# Altium schematic symbol library CMF5540K000BHEB.SchLib: 2 symbols
Pins are listed as number, name and electrical type; pins without a type are passive.

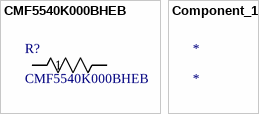
[diagram p0: symbols CMF5540K000BHEB to Component_1]

## CMF5540K000BHEB
designator R?
No Description Available; Mfr_Name: Vishay; Copyright: Copyright (C) 2022 Ultra Librarian. All rights reserved.; Manufacturer_Part_Number: CMF5540K000BHEB; Digi-Key_Part_Number_1: CMF5540K000BHEB-ND; Digi-Key_Part_Number_2: 541-CMF5540K000BHEBCT-ND; Digi-Key_Part_Number_3: 541-CMF5540K000BHEBTR-ND; RefDes: RefDes; Type: DEV
footprint RES_CMF07_VIS
pins: 1, 2

## Component_1
designator *